# Altium schematic symbol library REF19x.SchLib: 7 symbols
Pins are listed as number, name and electrical type; pins without a type are passive.

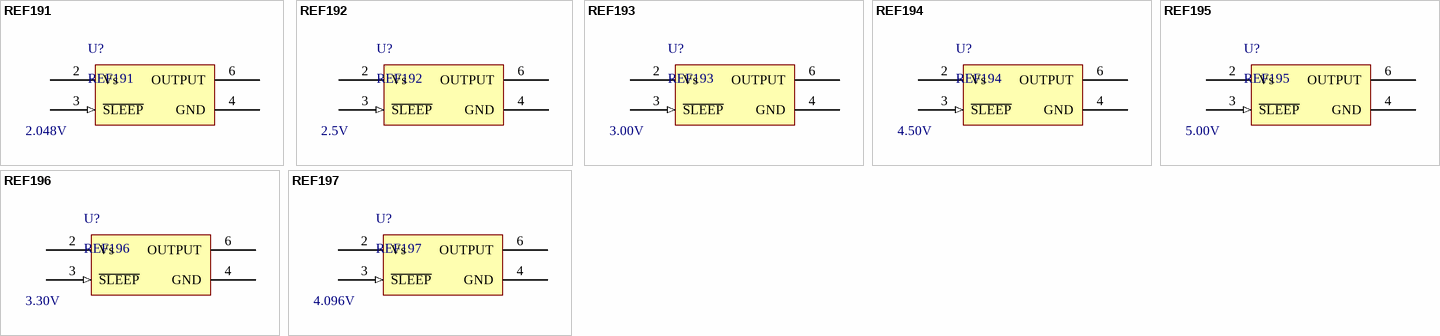
[diagram p0: symbols REF191 to REF197]

## REF191
designator U?  value 2.048V
Precision Micropower,Low Dropout Voltage Reference
footprint R_8
pins: 2 Vs (power), 3 ~{SLEEP} (in), 4 GND (power), 6 OUTPUT (power)

## REF192
designator U?  value 2.5V
Precision Micropower,Low Dropout Voltage Reference
footprint R_8
pins: 2 Vs (power), 3 ~{SLEEP} (in), 4 GND (power), 6 OUTPUT (power)

## REF193
designator U?  value 3.00V
Precision Micropower,Low Dropout Voltage Reference
footprint R_8
pins: 2 Vs (power), 3 ~{SLEEP} (in), 4 GND (power), 6 OUTPUT (power)

## REF194
designator U?  value 4.50V
Precision Micropower,Low Dropout Voltage Reference
footprint R_8
pins: 2 Vs (power), 3 ~{SLEEP} (in), 4 GND (power), 6 OUTPUT (power)

## REF195
designator U?  value 5.00V
Precision Micropower,Low Dropout Voltage Reference
footprint R_8
pins: 2 Vs (power), 3 ~{SLEEP} (in), 4 GND (power), 6 OUTPUT (power)

## REF196
designator U?  value 3.30V
Precision Micropower,Low Dropout Voltage Reference
footprint R_8
pins: 2 Vs (power), 3 ~{SLEEP} (in), 4 GND (power), 6 OUTPUT (power)

## REF197
designator U?  value 4.096V
Precision Micropower,Low Dropout Voltage Reference
footprint R_8
pins: 2 Vs (power), 3 ~{SLEEP} (in), 4 GND (power), 6 OUTPUT (power)